# EAGLE library part PCA9306 (library EE)
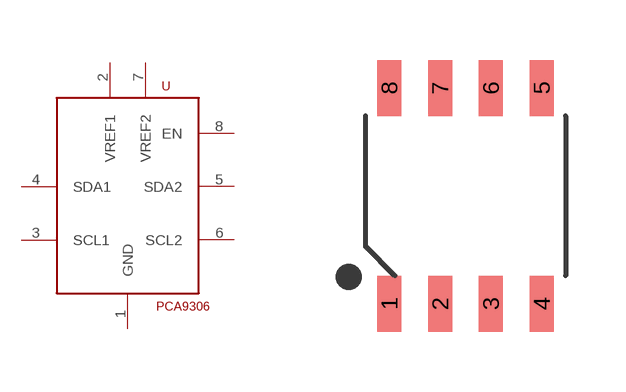
[diagram p3: symbol with the pads of SOIC-8; footprint SOIC-8]

Designator prefix -

## PCA9306 (VALUE: PCA9306)  [SOIC-8]
1  GND
2  VREF1
3  SCL1
4  SDA1
5  SDA2
6  SCL2
7  VREF2
8  EN

## Footprint SOIC-8 (pad centres in mm)
smd 0.6 x 1.4: 1 -1.905,-2.7; 2 -0.635,-2.7; 3 0.635,-2.7; 4 1.905,-2.7; 5 1.905,2.7; 6 0.635,2.7; 7 -0.635,2.7; 8 -1.905,2.7